# EAGLE library part OPA4348 (library Eagle_CAD_parts)
RAIL-TO-RAIL OPERATIONAL AMPLIFIER
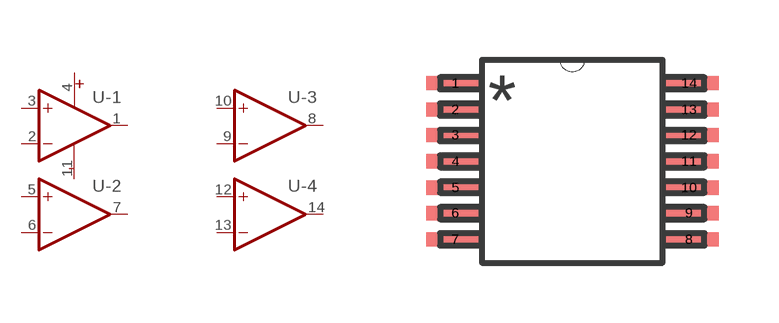
[diagram p6: symbol with the pads of 14-TSSOP; footprint 14-TSSOP]

Designator prefix U; gates -1=OPAMP-COMUN -2=OPAMP-COMUN -3=OPAMP-COMUN -4=OPAMP-COMUN G$5=ALIMENTACION

## OPA4348 (MPN: OPA4348AQPWRQ1; OC_FARNELL: -; OC_NEWARK: 74R6506; PACKAGE: TSSOP-20; SUPPLIER: Texas Instruments)  [14-TSSOP]
1  -1:OUT  oc
2  -1:-IN  in
3  -1:+IN  in
4  G$5:V+  pwr
5  -2:+IN  in
6  -2:-IN  in
7  -2:OUT  oc
8  -3:OUT  oc
9  -3:-IN  in
10  -3:+IN  in
11  G$5:V-  pwr
12  -4:+IN  in
13  -4:-IN  in
14  -4:OUT  oc

## Footprint 14-TSSOP (pad centres in mm)
smd 1.473 x 0.356: 1 -2.921,1.956; 2 -2.921,1.295; 3 -2.921,0.66; 4 -2.921,0; 5 -2.921,-0.66; 6 -2.921,-1.295; 7 -2.921,-1.956; 8 2.921,-1.956; 9 2.921,-1.295; 10 2.921,-0.66; 11 2.921,0; 12 2.921,0.66; 13 2.921,1.295; 14 2.921,1.956